# Altium schematic symbol library 220-LCMXO3D-9400HC-5BG256C-ND.SchLib: 1 symbol
Pins are listed as number, name and electrical type; pins without a type are passive.

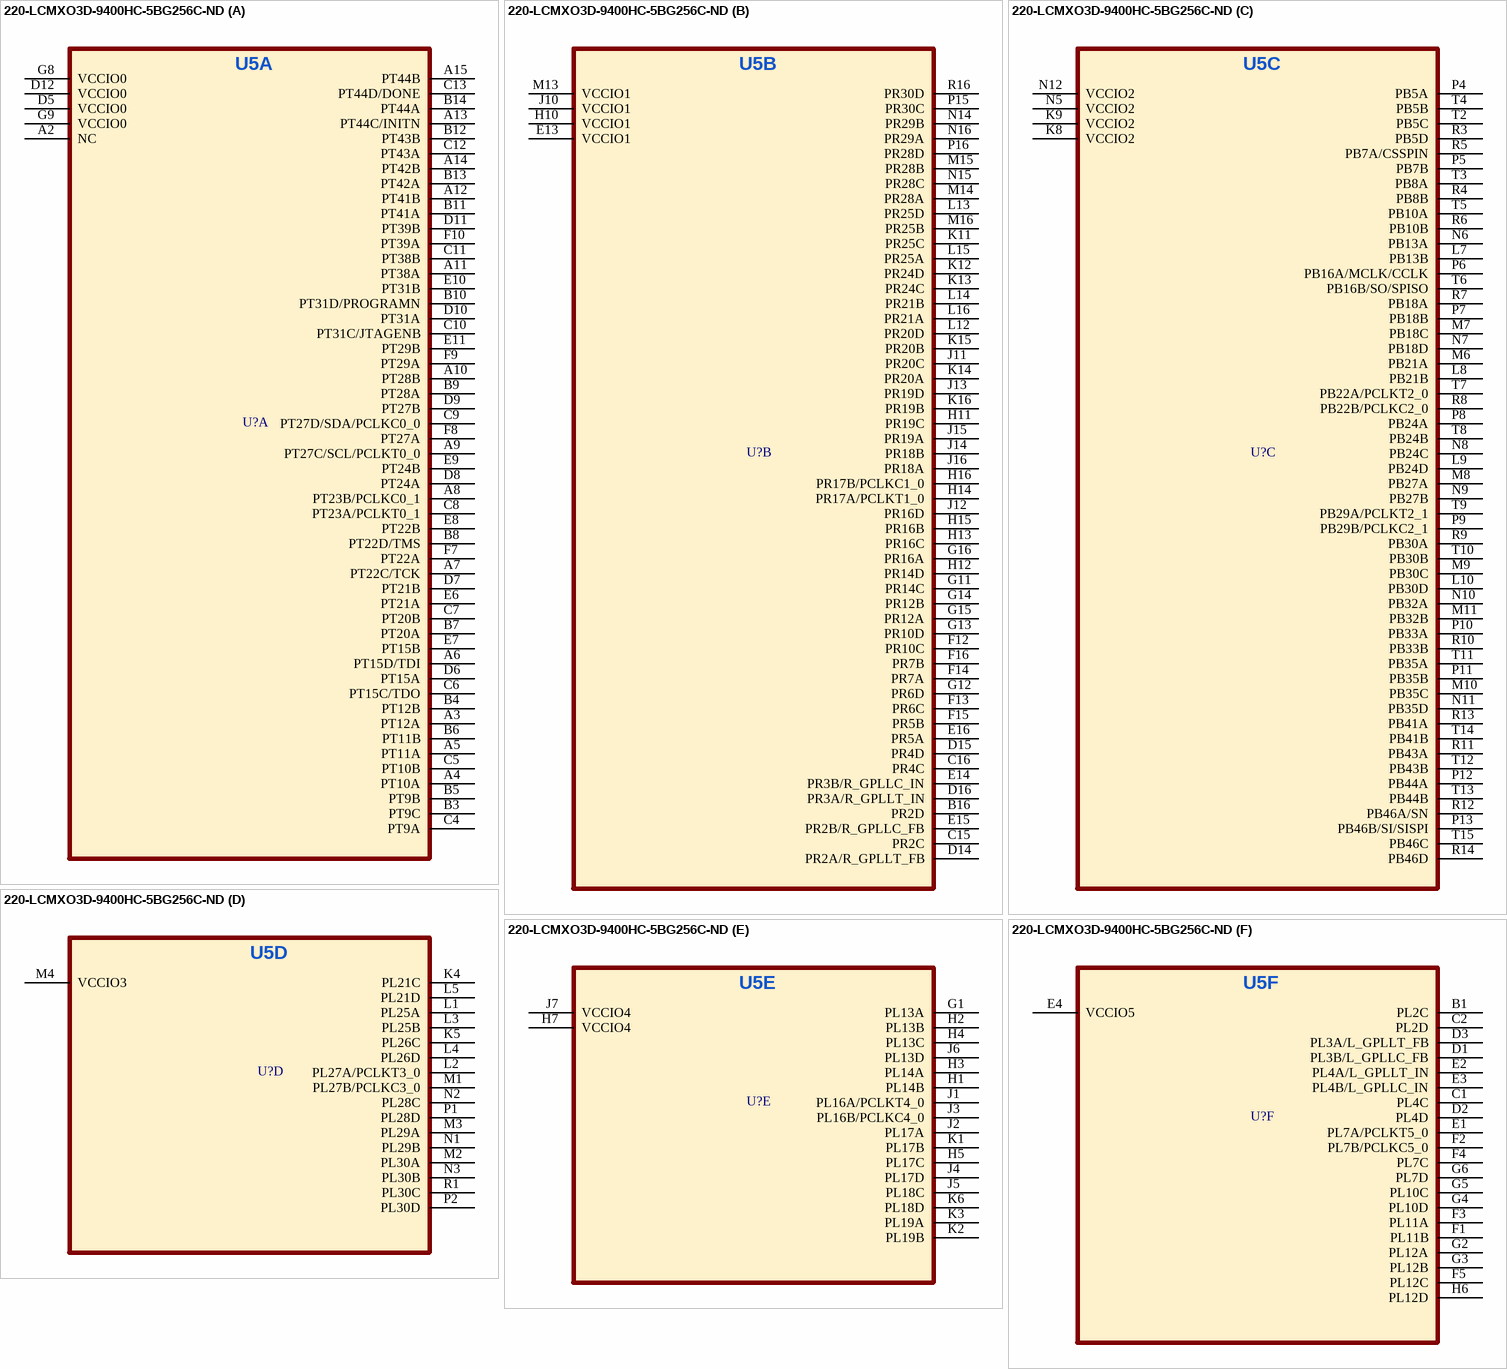
[diagram p0: symbol 220-LCMXO3D-9400HC-5BG256C-ND]

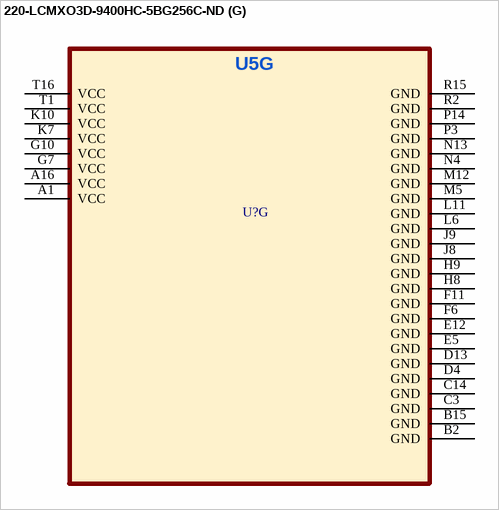
[diagram p1: symbol 220-LCMXO3D-9400HC-5BG256C-ND]

## 220-LCMXO3D-9400HC-5BG256C-ND
designator U?  (value not drawn)
Created By: Tusharsinh Parmar
footprint BGA256RCP80_16X16_1400X1400X170RB45N (Ball Grid Array (BGA), 0.80 mm pitch, square; 256 pin, 14.00 mm L X 14.00 mm W X 1.70 mm H body (w/reversed pins))
part A pins: A2 NC, A3 PT12A, A4 PT10A, A5 PT11A, A6 PT15D/TDI, A7 PT22C/TCK, A8 PT23B/PCLKC0_1, A9 PT27C/SCL/PCLKT0_0, A10 PT28B, A11 PT38A, A12 PT41B, A13 PT44C/INITN, A14 PT42B, A15 PT44B, B3 PT9C, B4 PT12B, B5 PT9B, B6 PT11B, B7 PT20A, B8 PT22D/TMS, B9 PT28A, B10 PT31D/PROGRAMN, B11 PT41A, B12 PT43B, B13 PT42A, B14 PT44A, C4 PT9A, C5 PT10B, C6 PT15C/TDO, C7 PT20B, C8 PT23A/PCLKT0_1, C9 PT27D/SDA/PCLKC0_0, C10 PT31C/JTAGENB, C11 PT38B, C12 PT43A, C13 PT44D/DONE, D5 VCCIO0, D6 PT15A, D7 PT21B, D8 PT24A, D9 PT27B, D10 PT31A, D11 PT39B, D12 VCCIO0, E6 PT21A, E7 PT15B, E8 PT22B, E9 PT24B, E10 PT31B, E11 PT29B, F7 PT22A, F8 PT27A, F9 PT29A, F10 PT39A, G8 VCCIO0, G9 VCCIO0
part B pins: B16 PR2D, C15 PR2C, C16 PR4C, D14 PR2A/R_GPLLT_FB, D15 PR4D, D16 PR3A/R_GPLLT_IN, E13 VCCIO1, E14 PR3B/R_GPLLC_IN, E15 PR2B/R_GPLLC_FB, E16 PR5A, F12 PR10C, F13 PR6C, F14 PR7A, F15 PR5B, F16 PR7B, G11 PR14C, G12 PR6D, G13 PR10D, G14 PR12B, G15 PR12A, G16 PR16A, H10 VCCIO1, H11 PR19C, H12 PR14D, H13 PR16C, H14 PR17A/PCLKT1_0, H15 PR16B, H16 PR17B/PCLKC1_0, J10 VCCIO1, J11 PR20C, J12 PR16D, J13 PR19D, J14 PR18B, J15 PR19A, J16 PR18A, K11 PR25C, K12 PR24D, K13 PR24C, K14 PR20A, K15 PR20B, K16 PR19B, L12 PR20D, L13 PR25D, L14 PR21B, L15 PR25A, L16 PR21A, M13 VCCIO1, M14 PR28A, M15 PR28B, M16 PR25B, N14 PR29B, N15 PR28C, N16 PR29A, P15 PR30C, P16 PR28D, R16 PR30D
part C pins: K8 VCCIO2, K9 VCCIO2, L7 PB13B, L8 PB21B, L9 PB24D, L10 PB30D, M6 PB21A, M7 PB18C, M8 PB27A, M9 PB30C, M10 PB35C, M11 PB32B, N5 VCCIO2, N6 PB13A, N7 PB18D, N8 PB24C, N9 PB27B, N10 PB32A, N11 PB35D, N12 VCCIO2, P4 PB5A, P5 PB7B, P6 PB16A/MCLK/CCLK, P7 PB18B, P8 PB24A, P9 PB29B/PCLKC2_1, P10 PB33A, P11 PB35B, P12 PB44A, P13 PB46B/SI/SISPI, R3 PB5D, R4 PB8B, R5 PB7A/CSSPIN, R6 PB10B, R7 PB18A, R8 PB22B/PCLKC2_0, R9 PB30A, R10 PB33B, R11 PB43A, R12 PB46A/SN, R13 PB41A, R14 PB46D, T2 PB5C, T3 PB8A, T4 PB5B, T5 PB10A, T6 PB16B/SO/SPISO, T7 PB22A/PCLKT2_0, T8 PB24B, T9 PB29A/PCLKT2_1, T10 PB30B, T11 PB35A, T12 PB43B, T13 PB44B, T14 PB41B, T15 PB46C
part D pins: K4 PL21C, K5 PL26C, L1 PL25A, L2 PL27A/PCLKT3_0, L3 PL25B, L4 PL26D, L5 PL21D, M1 PL27B/PCLKC3_0, M2 PL30A, M3 PL29A, M4 VCCIO3, N1 PL29B, N2 PL28C, N3 PL30B, P1 PL28D, P2 PL30D, R1 PL30C
part E pins: G1 PL13A, H1 PL14B, H2 PL13B, H3 PL14A, H4 PL13C, H5 PL17C, H7 VCCIO4, J1 PL16A/PCLKT4_0, J2 PL17A, J3 PL16B/PCLKC4_0, J4 PL17D, J5 PL18C, J6 PL13D, J7 VCCIO4, K1 PL17B, K2 PL19B, K3 PL19A, K6 PL18D
part F pins: B1 PL2C, C1 PL4C, C2 PL2D, D1 PL3B/L_GPLLC_FB, D2 PL4D, D3 PL3A/L_GPLLT_FB, E1 PL7A/PCLKT5_0, E2 PL4A/L_GPLLT_IN, E3 PL4B/L_GPLLC_IN, E4 VCCIO5, F1 PL11B, F2 PL7B/PCLKC5_0, F3 PL11A, F4 PL7C, F5 PL12C, G2 PL12A, G3 PL12B, G4 PL10D, G5 PL10C, G6 PL7D, H6 PL12D
part G pins: A1 VCC, A16 VCC, B2 GND, B15 GND, C3 GND, C14 GND, D4 GND, D13 GND, E5 GND, E12 GND, F6 GND, F11 GND, G7 VCC, G10 VCC, H8 GND, H9 GND, J8 GND, J9 GND, K7 VCC, K10 VCC, L6 GND, L11 GND, M5 GND, M12 GND, N4 GND, N13 GND, P3 GND, P14 GND, R2 GND, R15 GND, T1 VCC, T16 VCC
part A text: U5A
part B text: U5B
part C text: U5C
part D text: U5D
part E text: U5E
part F text: U5F
part G text: U5G